# Altium schematic symbol library digital.SchLib: 6 symbols
Pins are listed as number, name and electrical type; pins without a type are passive.

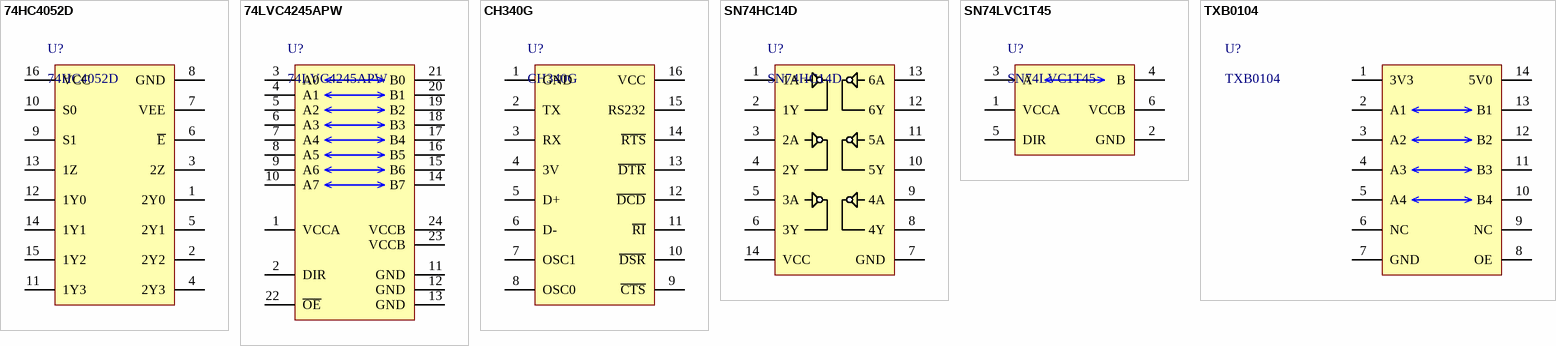
[diagram p0: symbols 74HC4052D to TXB0104]

## 74HC4052D
designator U?
Dual 4-channel analog multiplexer/demultiplexer
footprint SO16_1.27
pins: 1 2Y0, 2 2Y2, 3 2Z, 4 2Y3, 5 2Y1, 6 ~{E}, 7 VEE, 8 GND, 9 S1, 10 S0, 11 1Y3, 12 1Y0, 13 1Z, 14 1Y1, 15 1Y2, 16 VCC

## 74LVC4245APW
designator U?
Logic level converter
footprint SO24_0.65
pins: 1 VCCA, 2 DIR, 3 A0, 4 A1, 5 A2, 6 A3, 7 A4, 8 A5, 9 A6, 10 A7, 11 GND, 12 GND, 13 GND, 14 B7, 15 B6, 16 B5, 17 B4, 18 B3, 19 B2, 20 B1, 21 B0, 22 ~{OE}, 23 VCCB, 24 VCCB

## CH340G
designator U?
USB to UART converter
footprint SO16_1.27
pins: 1 GND, 2 TX, 3 RX, 4 3V, 5 D+, 6 D-, 7 OSC1, 8 OSC0, 9 ~{CTS}, 10 ~{DSR}, 11 ~{RI}, 12 ~{DCD}, 13 ~{DTR}, 14 ~{RTS}, 15 RS232, 16 VCC

## SN74HC14D
designator U?
Schmitt Inverting Trigger
footprint SO14_1.27
pins: 1 1A, 2 1Y, 3 2A, 4 2Y, 5 3A, 6 3Y, 7 GND, 8 4Y, 9 4A, 10 5Y, 11 5A, 12 6Y, 13 6A, 14 VCC

## SN74LVC1T45
designator U?
Logic level converter
footprint SOT23-6
pins: 1 VCCA, 2 GND, 3 A, 4 B, 5 DIR, 6 VCCB

## TXB0104
designator U?
Logic level converter
footprint SO14_0.65
pins: 1 3V3, 2 A1, 3 A2, 4 A3, 5 A4, 6 NC, 7 GND, 8 OE, 9 NC, 10 B4, 11 B3, 12 B2, 13 B1, 14 5V0